# Altium integrated library TI Power Management Power Modules.IntLib: 831 symbols (part 25 of 44)
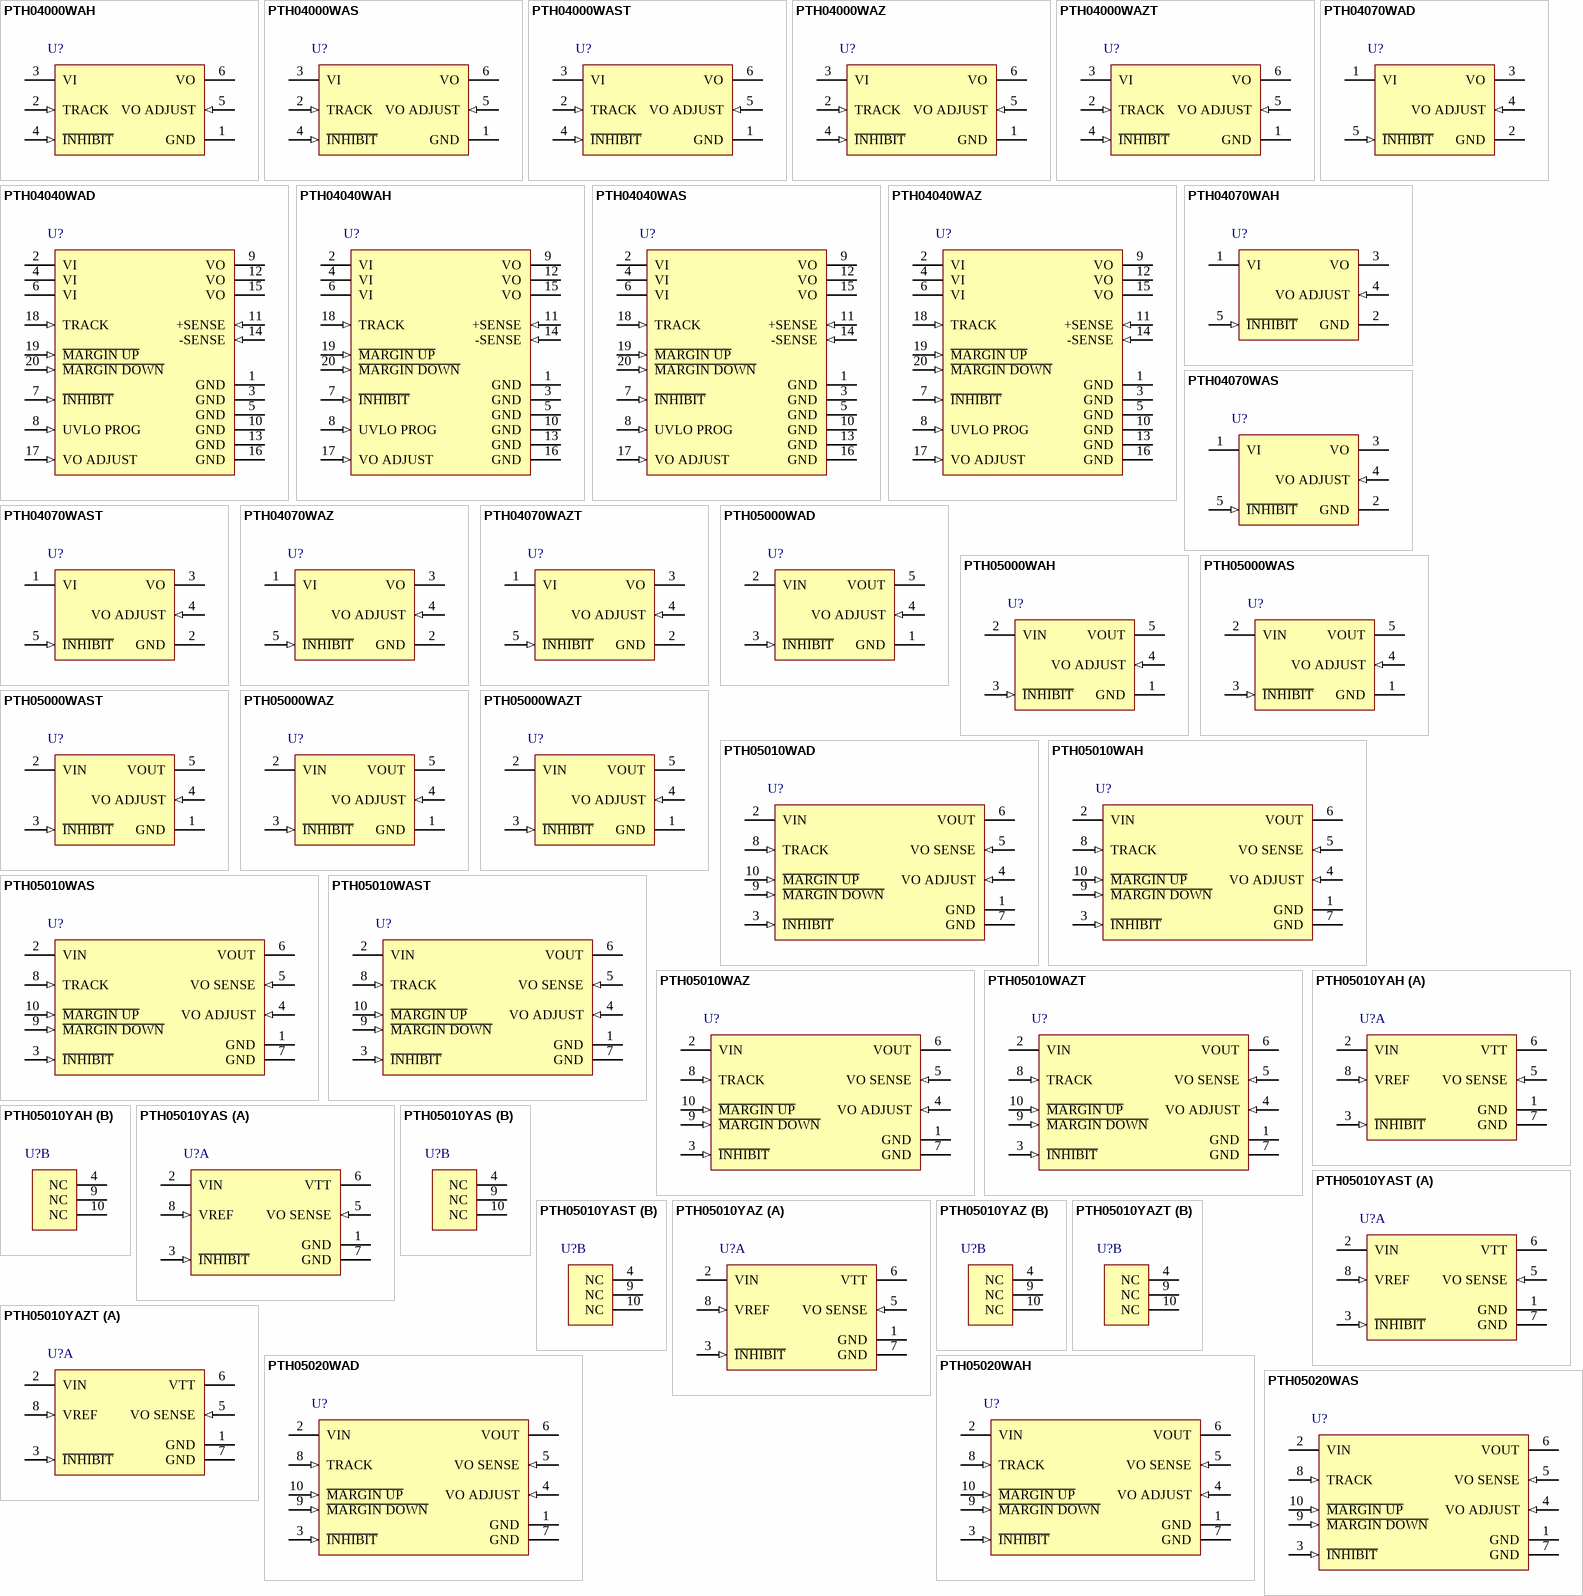
[diagram p47: symbols PTH04000WAH to PTH05020WAS]

## PTH04040WAS
designator U?
60 A, 3.3 / 5 V Input Non-Isolated Wide-Output Adjust Power Module, -40 to 85 degC, 20-pin Module (EVG20); Manufacturer: Texas Instruments; PartNumber: PTH04040WAS; Eco-Plan: TBD; Iout(Max)(A): 60; Regulated Outputs(#): 1; SubFamily: Non-Isolated POL; Vin(Max)(V): 5.5; Vin(Min)(V): 2.95; VO Adjustable: TRUE; Vout(Max)(V): 2.5; Vout(Min)(V): 0.8; DatasheetVersion: SLTS238C; PackageVersion: 4205912/A; PackageReference: EVG20; PackageDescription: 20-Pin Plastic Special Shape, Body 26.54 x 51.94 mm; Supplier 1: Digi-Key; Supplier Part Number 1: 296-20395-ND; Supplier 2: Newark; Supplier Part Number 2: 28K3817; Supplier 3: Mouser; Supplier Part Number 3: 595-PTH04040WAS; Mounting Technology: Surface Mount; ComponentLink1Description: Manufacturer URL; ComponentLink1URL: http://www.ti.com/; ComponentLink2Description: Datasheet; ComponentLink2URL: http://www.ti.com/general/docs/lit/getliterature.tsp?genericPartNumber=PTH04040W&fileType=pdf; ComponentLink3Description: Package Specification; ComponentLink3URL: http://www.ti.com/lit/ml/mpds167/mpds167.pdf; ComponentLink4Description: URL Link1; ComponentLink4URL: Samples URL:http://www.ti.com/product/pth04040w#samples
footprint TI-EVG20_V (Module, 20-Leads, Body 51.94x26.54mm)
pins: 1 GND (power) "This is the common ground connection for the VI and VO power connections. It is also the 0 Vdc reference for the control inputs.", 2 VI (power) "The positive input voltage power node to the module, which is referenced to common GND.", 3 GND (power) "This is the common ground connection for the VI and VO power connections. It is also the 0 Vdc reference for the control inputs.", 4 VI (power) "The positive input voltage power node to the module, which is referenced to common GND.", 5 GND (power) "This is the common ground connection for the VI and VO power connections. It is also the 0 Vdc reference for the control inputs.", 6 VI (power) "The positive input voltage power node to the module, which is referenced to common GND.", 7 ~{INHIBIT} (in) "The Inhibit pin is an open-collector/drain negative logic input that is referenced to GND. Applying a low level ground signal to this input disables the module’s output and turns off the output voltage. When the Inhibit (See Datasheet)", 8 UVLO PROG (in) "Connecting a resistor from this pin to signal ground allows the on threshold of the input undervoltage lockout (UVLO) to be adjusted higher than the default value. The hysterisis can also be independently reduced by (See Datasheet)", 9 VO (power) "The regulated positive power output with respect to the GND node.", 10 GND (power) "This is the common ground connection for the VI and VO power connections. It is also the 0 Vdc reference for the control inputs.", 11 +SENSE (in) "The sense inputs allow the regulation circuit to compensate for voltage drop between the module and the load. For optimal voltage accuracy, +Sense should be connected to VO. If it is left open, a low-value internal resistor (See Datasheet)", 12 VO (power) "The regulated positive power output with respect to the GND node.", 13 GND (power) "This is the common ground connection for the VI and VO power connections. It is also the 0 Vdc reference for the control inputs.", 14 -SENSE (in) "For optimal voltage accuracy, -Sense should be connected to the ground return at the load. If it is left open, a low-value internal resistor ensures that the output remains in regulation.", 15 VO (power) "The regulated positive power output with respect to the GND node.", 16 GND (power) "This is the common ground connection for the VI and VO power connections. It is also the 0 Vdc reference for the control inputs.", 17 VO ADJUST (in) "A 1%, 0.05-W resistor must be connected between this pin and GND to set the output voltage higher than the minimum value. The set-point range for the output voltage is from 0.8 V to 2.5 V. The resistor required for a given (See Datasheet)", 18 TRACK (in) "This is an analog control input that allows the output voltage to follow another voltage during power up and power down sequences. The pin is active from 0 V, up to the nominal set-point voltage. Within this range, the (See Datasheet)", 19 ~{MARGIN UP} (in) "When this input is asserted to GND, the output voltage is increased by 5%. The input requires an open collector (open-drain) interface. It is not TTL compatible. The percent change can be reduced with a series resistor. For (See Datasheet)", 20 ~{MARGIN DOWN} (in) "When this input is asserted to GND, the output voltage is decreased by 5% from the nominal. The input requires an open-collector (open-drain) interface. It is not TTL compatible. A lower percent change can be accommodated (See Datasheet)"

## PTH04040WAZ
designator U?
60 A, 3.3 / 5 V Input Non-Isolated Wide-Output Adjust Power Module, -40 to 85 degC, 20-pin Module (EVG20), Pb-Free (RoHS); Manufacturer: Texas Instruments; PartNumber: PTH04040WAZ; Iout(Max)(A): 60; Regulated Outputs(#): 1; SubFamily: Non-Isolated POL; Vin(Max)(V): 5.5; Vin(Min)(V): 2.95; VO Adjustable: TRUE; Vout(Max)(V): 2.5; Vout(Min)(V): 0.8; DatasheetVersion: SLTS238C; PackageVersion: 4205912/A; PackageReference: EVG20; PackageDescription: 20-Pin Plastic Special Shape, Body 26.54 x 51.94 mm; Supplier 1: Digi-Key; Supplier Part Number 1: 296-20396-ND; Supplier 2: Newark; Supplier Part Number 2: 37K0711; Supplier 3: Mouser; Supplier Part Number 3: 595-PTH04040WAZ; Eco-Plan: Pb-Free (RoHS); Mounting Technology: Surface Mount; ComponentLink1Description: Manufacturer URL; ComponentLink1URL: http://www.ti.com/; ComponentLink2Description: Datasheet; ComponentLink2URL: http://www.ti.com/general/docs/lit/getliterature.tsp?genericPartNumber=PTH04040W&fileType=pdf; ComponentLink3Description: Package Specification; ComponentLink3URL: http://www.ti.com/lit/ml/mpds167/mpds167.pdf; ComponentLink4Description: URL Link1; ComponentLink4URL: Samples URL:http://www.ti.com/product/tps55010#samples
footprint TI-EVG20_V (Module, 20-Leads, Body 51.94x26.54mm)
pins: 1 GND (power) "This is the common ground connection for the VI and VO power connections. It is also the 0 Vdc reference for the control inputs.", 2 VI (power) "The positive input voltage power node to the module, which is referenced to common GND.", 3 GND (power) "This is the common ground connection for the VI and VO power connections. It is also the 0 Vdc reference for the control inputs.", 4 VI (power) "The positive input voltage power node to the module, which is referenced to common GND.", 5 GND (power) "This is the common ground connection for the VI and VO power connections. It is also the 0 Vdc reference for the control inputs.", 6 VI (power) "The positive input voltage power node to the module, which is referenced to common GND.", 7 ~{INHIBIT} (in) "The Inhibit pin is an open-collector/drain negative logic input that is referenced to GND. Applying a low level ground signal to this input disables the module’s output and turns off the output voltage. When the Inhibit (See Datasheet)", 8 UVLO PROG (in) "Connecting a resistor from this pin to signal ground allows the on threshold of the input undervoltage lockout (UVLO) to be adjusted higher than the default value. The hysterisis can also be independently reduced by (See Datasheet)", 9 VO (power) "The regulated positive power output with respect to the GND node.", 10 GND (power) "This is the common ground connection for the VI and VO power connections. It is also the 0 Vdc reference for the control inputs.", 11 +SENSE (in) "The sense inputs allow the regulation circuit to compensate for voltage drop between the module and the load. For optimal voltage accuracy, +Sense should be connected to VO. If it is left open, a low-value internal resistor (See Datasheet)", 12 VO (power) "The regulated positive power output with respect to the GND node.", 13 GND (power) "This is the common ground connection for the VI and VO power connections. It is also the 0 Vdc reference for the control inputs.", 14 -SENSE (in) "For optimal voltage accuracy, -Sense should be connected to the ground return at the load. If it is left open, a low-value internal resistor ensures that the output remains in regulation.", 15 VO (power) "The regulated positive power output with respect to the GND node.", 16 GND (power) "This is the common ground connection for the VI and VO power connections. It is also the 0 Vdc reference for the control inputs.", 17 VO ADJUST (in) "A 1%, 0.05-W resistor must be connected between this pin and GND to set the output voltage higher than the minimum value. The set-point range for the output voltage is from 0.8 V to 2.5 V. The resistor required for a given (See Datasheet)", 18 TRACK (in) "This is an analog control input that allows the output voltage to follow another voltage during power up and power down sequences. The pin is active from 0 V, up to the nominal set-point voltage. Within this range, the (See Datasheet)", 19 ~{MARGIN UP} (in) "When this input is asserted to GND, the output voltage is increased by 5%. The input requires an open collector (open-drain) interface. It is not TTL compatible. The percent change can be reduced with a series resistor. For (See Datasheet)", 20 ~{MARGIN DOWN} (in) "When this input is asserted to GND, the output voltage is decreased by 5% from the nominal. The input requires an open-collector (open-drain) interface. It is not TTL compatible. A lower percent change can be accommodated (See Datasheet)"

## PTH04070WAD
designator U?
3 A, 3.3 / 5 V Input Adjustable Switching Regulator, -40 to 85 degC, 5-pin Module (EVD5), Pb-Free (RoHS); Manufacturer: Texas Instruments; PartNumber: PTH04070WAD; Iout(Max)(A): 3; Regulated Outputs(#): 1; SubFamily: Non-Isolated POL; Vin(Max)(V): 5.5; VO Adjustable: TRUE; Vout(Max)(V): 3.6; Vout(Min)(V): 0.9; DatasheetVersion: SLTS227B; PackageVersion: 4206288/A; PackageReference: EVD5; PackageDescription: 5-Pin Plastic Special Shape, Body 10.16 x 12.57 mm; Supplier 1: Digi-Key; Supplier Part Number 1: 296-26309-ND; Supplier 2: Newark; Supplier Part Number 2: 71K9391; Supplier 3: Mouser; Supplier Part Number 3: 595-PTH04070WAD; Eco-Plan: Pb-Free (RoHS); Vin(Min)(V): 3; Mounting Technology: Through Hole; ComponentLink1Description: Manufacturer URL; ComponentLink1URL: http://www.ti.com/; ComponentLink2Description: Datasheet; ComponentLink2URL: http://www.ti.com/general/docs/lit/getliterature.tsp?genericPartNumber=PTH04070W&fileType=pdf; ComponentLink3Description: Package Specification; ComponentLink3URL: http://www.ti.com/litv/pdf/mpds181; ComponentLink4Description: URL Link1; ComponentLink4URL: Samples URL:http://www.ti.com/product/pth04070w#samples
footprint TI-EVD5_V (Module, 5-Leads, Body 12.57x10.16mm)
pins: 1 VI (power) "The positive input voltage power node to the module, which is referenced to common GND.", 2 GND (power) "This is the common ground connection for the VI and VO power connections. It is also the 0-VDC reference for the control inputs.", 3 VO (power) "The regulated positive power output with respect to the GND node.", 4 VO ADJUST (in) "A 1% resistor must be connected between this pin and GND (pin 1) to set the output voltage of the module higher than 0.9 V. If left open-circuit, the output voltage defaults to this value. The temperature stability of the (See Datasheet)", 5 ~{INHIBIT} (in) "The Inhibit pin is an open-collector/drain-negative logic input that is referenced to GND. Applying a low-level ground signal to this input disables the module's output. When the Inhibit control is active, the input current (See Datasheet)"

## PTH04070WAH
designator U?
3 A, 3.3 / 5 V Input Adjustable Switching Regulator, -40 to 85 degC, 5-pin Module (EVD5), Pb-Free (RoHS); Manufacturer: Texas Instruments; PartNumber: PTH04070WAH; Iout(Max)(A): 3; Regulated Outputs(#): 1; SubFamily: Non-Isolated POL; Vin(Max)(V): 5.5; VO Adjustable: TRUE; Vout(Max)(V): 3.6; Vout(Min)(V): 0.9; DatasheetVersion: SLTS227B; PackageVersion: 4206288/A; PackageReference: EVD5; PackageDescription: 5-Pin Plastic Special Shape, Body 10.16 x 12.57 mm; Supplier 1: Digi-Key; Supplier Part Number 1: 296-20397-ND; Supplier 2: Farnell; Supplier Part Number 2: 1470479; Supplier 3: Newark; Supplier Part Number 3: 44J0217; Supplier 4: Mouser; Supplier Part Number 4: 595-PTH04070WAH; Eco-Plan: Pb-Free (RoHS); Vin(Min)(V): 3; Mounting Technology: Through Hole; ComponentLink1Description: Manufacturer URL; ComponentLink1URL: http://www.ti.com/; ComponentLink2Description: Datasheet; ComponentLink2URL: http://www.ti.com/general/docs/lit/getliterature.tsp?genericPartNumber=PTH04070W&fileType=pdf; ComponentLink3Description: Package Specification; ComponentLink3URL: http://www.ti.com/litv/pdf/mpds181; ComponentLink4Description: URL Link1; ComponentLink4URL: Samples URL:http://www.ti.com/product/pth04070w#samples
footprint TI-EVD5_V (Module, 5-Leads, Body 12.57x10.16mm)
pins: 1 VI (power) "The positive input voltage power node to the module, which is referenced to common GND.", 2 GND (power) "This is the common ground connection for the VI and VO power connections. It is also the 0-VDC reference for the control inputs.", 3 VO (power) "The regulated positive power output with respect to the GND node.", 4 VO ADJUST (in) "A 1% resistor must be connected between this pin and GND (pin 1) to set the output voltage of the module higher than 0.9 V. If left open-circuit, the output voltage defaults to this value. The temperature stability of the (See Datasheet)", 5 ~{INHIBIT} (in) "The Inhibit pin is an open-collector/drain-negative logic input that is referenced to GND. Applying a low-level ground signal to this input disables the module's output. When the Inhibit control is active, the input current (See Datasheet)"

## PTH04070WAS
designator U?
3 A, 3.3 / 5 V Input Adjustable Switching Regulator, -40 to 85 degC, 5-pin Module (EVE5); Manufacturer: Texas Instruments; PartNumber: PTH04070WAS; Eco-Plan: TBD; Iout(Max)(A): 3; Regulated Outputs(#): 1; SubFamily: Non-Isolated POL; Vin(Max)(V): 5.5; VO Adjustable: TRUE; Vout(Max)(V): 3.6; Vout(Min)(V): 0.9; DatasheetVersion: SLTS227B; PackageVersion: 4206289/A; PackageReference: EVE5; PackageDescription: 5-Pin Plastic Special Shape, Body 10.16 x 12.57 mm; Supplier 1: Digi-Key; Supplier Part Number 1: 296-20398-ND; Supplier 2: Farnell; Supplier Part Number 2: 2144312; Supplier 3: Newark; Supplier Part Number 3: 44J0218; Supplier 4: Mouser; Supplier Part Number 4: 595-PTH04070WAS; Vin(Min)(V): 3; Mounting Technology: Surface Mount; ComponentLink1Description: Manufacturer URL; ComponentLink1URL: http://www.ti.com/; ComponentLink2Description: Datasheet; ComponentLink2URL: http://www.ti.com/general/docs/lit/getliterature.tsp?genericPartNumber=PTH04070W&fileType=pdf; ComponentLink3Description: Package Specification; ComponentLink3URL: http://www.ti.com/lit/ml/mpds182/mpds182.pdf; ComponentLink4Description: URL Link1; ComponentLink4URL: Samples URL:http://www.ti.com/product/pth04070w#samples
footprint TI-EVE5_V (5-Leads Double Sided Module, Body 12.57x10.16 mm)
pins: 1 VI (power) "The positive input voltage power node to the module, which is referenced to common GND.", 2 GND (power) "This is the common ground connection for the VI and VO power connections. It is also the 0-VDC reference for the control inputs.", 3 VO (power) "The regulated positive power output with respect to the GND node.", 4 VO ADJUST (in) "A 1% resistor must be connected between this pin and GND (pin 1) to set the output voltage of the module higher than 0.9 V. If left open-circuit, the output voltage defaults to this value. The temperature stability of the (See Datasheet)", 5 ~{INHIBIT} (in) "The Inhibit pin is an open-collector/drain-negative logic input that is referenced to GND. Applying a low-level ground signal to this input disables the module's output. When the Inhibit control is active, the input current (See Datasheet)"

## PTH04070WAST
designator U?
3 A, 3.3 / 5 V Input Adjustable Switching Regulator, -40 to 85 degC, 5-pin Module (EVE5); Manufacturer: Texas Instruments; PartNumber: PTH04070WAST; Eco-Plan: TBD; Iout(Max)(A): 3; Regulated Outputs(#): 1; SubFamily: Non-Isolated POL; Vin(Max)(V): 5.5; VO Adjustable: TRUE; Vout(Max)(V): 3.6; Vout(Min)(V): 0.9; DatasheetVersion: SLTS227B; PackageVersion: 4206289/A; PackageReference: EVE5; PackageDescription: 5-Pin Plastic Special Shape, Body 10.16 x 12.57 mm; Supplier 1: Digi-Key; Supplier Part Number 1: PTH04070WAST-ND; Supplier 2: Newark; Supplier Part Number 2: 44J0219; Supplier 3: Mouser; Supplier Part Number 3: 595-PTH04070WAST; Vin(Min)(V): 3; Mounting Technology: Surface Mount; ComponentLink1Description: Manufacturer URL; ComponentLink1URL: http://www.ti.com/; ComponentLink2Description: Datasheet; ComponentLink2URL: http://www.ti.com/general/docs/lit/getliterature.tsp?genericPartNumber=PTH04070W&fileType=pdf; ComponentLink3Description: Package Specification; ComponentLink3URL: http://www.ti.com/lit/ml/mpds182/mpds182.pdf; ComponentLink4Description: URL Link1; ComponentLink4URL: Samples URL:http://www.ti.com/product/pth04070w#samples
footprint TI-EVE5_V (5-Leads Double Sided Module, Body 12.57x10.16 mm)
pins: 1 VI (power) "The positive input voltage power node to the module, which is referenced to common GND.", 2 GND (power) "This is the common ground connection for the VI and VO power connections. It is also the 0-VDC reference for the control inputs.", 3 VO (power) "The regulated positive power output with respect to the GND node.", 4 VO ADJUST (in) "A 1% resistor must be connected between this pin and GND (pin 1) to set the output voltage of the module higher than 0.9 V. If left open-circuit, the output voltage defaults to this value. The temperature stability of the (See Datasheet)", 5 ~{INHIBIT} (in) "The Inhibit pin is an open-collector/drain-negative logic input that is referenced to GND. Applying a low-level ground signal to this input disables the module's output. When the Inhibit control is active, the input current (See Datasheet)"

## PTH04070WAZ
designator U?
3 A, 3.3 / 5 V Input Adjustable Switching Regulator, -40 to 85 degC, 5-pin Module (EVE5), Pb-Free (RoHS); Manufacturer: Texas Instruments; PartNumber: PTH04070WAZ; Iout(Max)(A): 3; Regulated Outputs(#): 1; SubFamily: Non-Isolated POL; Vin(Max)(V): 5.5; VO Adjustable: TRUE; Vout(Max)(V): 3.6; Vout(Min)(V): 0.9; DatasheetVersion: SLTS227B; PackageVersion: 4206289/A; PackageReference: EVE5; PackageDescription: 5-Pin Plastic Special Shape, Body 10.16 x 12.57 mm; Supplier 1: Digi-Key; Supplier Part Number 1: 296-20399-ND; Supplier 2: Newark; Supplier Part Number 2: 37K0712; Supplier 3: Mouser; Supplier Part Number 3: 595-PTH04070WAZ; Eco-Plan: Pb-Free (RoHS); Vin(Min)(V): 3; Mounting Technology: Surface Mount; ComponentLink1Description: Manufacturer URL; ComponentLink1URL: http://www.ti.com/; ComponentLink2Description: Datasheet; ComponentLink2URL: http://www.ti.com/general/docs/lit/getliterature.tsp?genericPartNumber=PTH04070W&fileType=pdf; ComponentLink3Description: Package Specification; ComponentLink3URL: http://www.ti.com/lit/ml/mpds182/mpds182.pdf; ComponentLink4Description: URL Link1; ComponentLink4URL: Samples URL:http://www.ti.com/product/pth04070w#samples
footprint TI-EVE5_V (5-Leads Double Sided Module, Body 12.57x10.16 mm)
pins: 1 VI (power) "The positive input voltage power node to the module, which is referenced to common GND.", 2 GND (power) "This is the common ground connection for the VI and VO power connections. It is also the 0-VDC reference for the control inputs.", 3 VO (power) "The regulated positive power output with respect to the GND node.", 4 VO ADJUST (in) "A 1% resistor must be connected between this pin and GND (pin 1) to set the output voltage of the module higher than 0.9 V. If left open-circuit, the output voltage defaults to this value. The temperature stability of the (See Datasheet)", 5 ~{INHIBIT} (in) "The Inhibit pin is an open-collector/drain-negative logic input that is referenced to GND. Applying a low-level ground signal to this input disables the module's output. When the Inhibit control is active, the input current (See Datasheet)"

## PTH04070WAZT
designator U?
3 A, 3.3 / 5 V Input Adjustable Switching Regulator, -40 to 85 degC, 5-pin Module (EVE5), Pb-Free (RoHS); Manufacturer: Texas Instruments; PartNumber: PTH04070WAZT; Iout(Max)(A): 3; Regulated Outputs(#): 1; SubFamily: Non-Isolated POL; Vin(Max)(V): 5.5; VO Adjustable: TRUE; Vout(Max)(V): 3.6; Vout(Min)(V): 0.9; DatasheetVersion: SLTS227B; PackageVersion: 4206289/A; PackageReference: EVE5; PackageDescription: 5-Pin Plastic Special Shape, Body 10.16 x 12.57 mm; Supplier 1: Digi-Key; Supplier Part Number 1: PTH04070WAZT-ND; Supplier 2: Farnell; Supplier Part Number 2: 1180201RL; Supplier 3: Farnell; Supplier Part Number 3: 1180201; Supplier 4: Newark; Supplier Part Number 4: 21M9035; Supplier 5: Newark; Supplier Part Number 5: 37K0713; Supplier 6: Mouser; Supplier Part Number 6: 595-PTH04070WAZT; Eco-Plan: Pb-Free (RoHS); Vin(Min)(V): 3; Mounting Technology: Surface Mount; ComponentLink1Description: Manufacturer URL; ComponentLink1URL: http://www.ti.com/; ComponentLink2Description: Datasheet; ComponentLink2URL: http://www.ti.com/general/docs/lit/getliterature.tsp?genericPartNumber=PTH04070W&fileType=pdf; ComponentLink3Description: Package Specification; ComponentLink3URL: http://www.ti.com/lit/ml/mpds182/mpds182.pdf; ComponentLink4Description: URL Link1; ComponentLink4URL: Samples URL:http://www.ti.com/product/pth04070w#samples
footprint TI-EVE5_V (5-Leads Double Sided Module, Body 12.57x10.16 mm)
pins: 1 VI (power) "The positive input voltage power node to the module, which is referenced to common GND.", 2 GND (power) "This is the common ground connection for the VI and VO power connections. It is also the 0-VDC reference for the control inputs.", 3 VO (power) "The regulated positive power output with respect to the GND node.", 4 VO ADJUST (in) "A 1% resistor must be connected between this pin and GND (pin 1) to set the output voltage of the module higher than 0.9 V. If left open-circuit, the output voltage defaults to this value. The temperature stability of the (See Datasheet)", 5 ~{INHIBIT} (in) "The Inhibit pin is an open-collector/drain-negative logic input that is referenced to GND. Applying a low-level ground signal to this input disables the module's output. When the Inhibit control is active, the input current (See Datasheet)"

## PTH05000WAD
designator U?
6 A, 5 V Input Wide-Output Adjust Plug-in Power Module, -40 to 85 degC, 5-pin Module (EUS5), Pb-Free (RoHS); Manufacturer: Texas Instruments; PartNumber: PTH05000WAD; Iout(Max)(A): 6; Regulated Outputs(#): 1; SubFamily: Non-Isolated POL; Vin(Max)(V): 5.5; Vin(Min)(V): 4.5; VO Adjustable: TRUE; Vout(Max)(V): 3.6; Vout(Min)(V): 0.9; DatasheetVersion: SLTS201C; PackageVersion: 4204990-2/C; PackageReference: EUS5; PackageDescription: 5-Pin Plastic Special Shape, Body 12.57 x 18.92 mm; Supplier 1: Digi-Key; Supplier Part Number 1: 296-32714-ND; Supplier 2: Farnell; Supplier Part Number 2: 1103284; Supplier 3: Newark; Supplier Part Number 3: 97K7858; Supplier 4: Newark; Supplier Part Number 4: 58K6004; Supplier 5: Mouser; Supplier Part Number 5: 595-PTH05000WAD; Eco-Plan: Pb-Free (RoHS); Mounting Technology: Through Hole; ComponentLink1Description: Manufacturer URL; ComponentLink1URL: http://www.ti.com/; ComponentLink2Description: Datasheet; ComponentLink2URL: http://www.ti.com/general/docs/lit/getliterature.tsp?genericPartNumber=PTH05000W&fileType=pdf; ComponentLink3Description: Package Specification; ComponentLink3URL: http://www.ti.com/litv/pdf/mpds139b; ComponentLink4Description: URL Link1; ComponentLink4URL: Samples URL:http://www.ti.com/product/pth05000w#samples
footprint TI-EUS5_V (5-Leads, Plastic Special Shape, Body 18.92x12.57mm)
pins: 1 GND (power) "This is the common ground connection for the‘Vin’ and ‘Vout’ power connections. It is also the 0 VDC reference for the ‘Inhibit’ and ‘Vo Adjust’ control input.", 2 VIN (power) "The positive input voltage power node to the module, which is referenced to common GND.", 3 ~{INHIBIT} (in) "The Inhibit pin is an open-collector/drain negative logic input that is referenced to GND. Applying a lowlevel ground signal to this input disables the module’s output and turns off the output voltage. When the Inhibit (See Datasheet)", 4 VO ADJUST (in) "A 0.1 W 1 % resistor must be directly connected between this pin and the GND pin to set the output voltage to a value higher than 0.9 V. The temperature stability of the resistor should be 100 ppm/degreesC (or better). The (See Datasheet)", 5 VOUT (power) "The regulated positive power output with respect to the GND node."

## PTH05000WAH
designator U?
6 A, 5 V Input Wide-Output Adjust Plug-in Power Module, -40 to 85 degC, 5-pin Module (EUS5), Pb-Free (RoHS); Manufacturer: Texas Instruments; PartNumber: PTH05000WAH; Iout(Max)(A): 6; Regulated Outputs(#): 1; SubFamily: Non-Isolated POL; Vin(Max)(V): 5.5; Vin(Min)(V): 4.5; VO Adjustable: TRUE; Vout(Max)(V): 3.6; Vout(Min)(V): 0.9; DatasheetVersion: SLTS201C; PackageVersion: 4204990-2/C; PackageReference: EUS5; PackageDescription: 5-Pin Plastic Special Shape, Body 12.57 x 18.92 mm; Supplier 1: Digi-Key; Supplier Part Number 1: 296-19718-ND; Supplier 2: Farnell; Supplier Part Number 2: 1212253; Supplier 3: Newark; Supplier Part Number 3: 80K6126; Supplier 4: Mouser; Supplier Part Number 4: 595-PTH05000WAH; Eco-Plan: Pb-Free (RoHS); Mounting Technology: Through Hole; ComponentLink1Description: Manufacturer URL; ComponentLink1URL: http://www.ti.com/; ComponentLink2Description: Datasheet; ComponentLink2URL: http://www.ti.com/general/docs/lit/getliterature.tsp?genericPartNumber=PTH05000W&fileType=pdf; ComponentLink3Description: Package Specification; ComponentLink3URL: http://www.ti.com/litv/pdf/mpds139b; ComponentLink4Description: URL Link1; ComponentLink4URL: Samples URL:http://www.ti.com/product/pth05000w#samples
footprint TI-EUS5_V (5-Leads, Plastic Special Shape, Body 18.92x12.57mm)
pins: 1 GND (power) "This is the common ground connection for the‘Vin’ and ‘Vout’ power connections. It is also the 0 VDC reference for the ‘Inhibit’ and ‘Vo Adjust’ control input.", 2 VIN (power) "The positive input voltage power node to the module, which is referenced to common GND.", 3 ~{INHIBIT} (in) "The Inhibit pin is an open-collector/drain negative logic input that is referenced to GND. Applying a lowlevel ground signal to this input disables the module’s output and turns off the output voltage. When the Inhibit (See Datasheet)", 4 VO ADJUST (in) "A 0.1 W 1 % resistor must be directly connected between this pin and the GND pin to set the output voltage to a value higher than 0.9 V. The temperature stability of the resistor should be 100 ppm/degreesC (or better). The (See Datasheet)", 5 VOUT (power) "The regulated positive power output with respect to the GND node."

## PTH05000WAS
designator U?
6 A, 5 V Input Wide-Output Adjust Plug-in Power Module, -40 to 85 degC, 5-pin Module (EUT5); Manufacturer: Texas Instruments; PartNumber: PTH05000WAS; Eco-Plan: TBD; Iout(Max)(A): 6; Regulated Outputs(#): 1; SubFamily: Non-Isolated POL; Vin(Max)(V): 5.5; Vin(Min)(V): 4.5; VO Adjustable: TRUE; Vout(Max)(V): 3.6; Vout(Min)(V): 0.9; DatasheetVersion: SLTS201C; PackageVersion: 4204991-2/C; PackageReference: EUT5; PackageDescription: 5-Pin Plastic Special Shape, Body 12.57 x 18.92 mm; Supplier 1: Digi-Key; Supplier Part Number 1: 296-20400-ND; Supplier 2: Newark; Supplier Part Number 2: 82H5356; Supplier 3: Mouser; Supplier Part Number 3: 595-PTH05000WAS; Mounting Technology: Surface Mount; ComponentLink1Description: Manufacturer URL; ComponentLink1URL: http://www.ti.com/; ComponentLink2Description: Datasheet; ComponentLink2URL: http://www.ti.com/general/docs/lit/getliterature.tsp?genericPartNumber=PTH05000W&fileType=pdf; ComponentLink3Description: Package Specification; ComponentLink3URL: http://www.ti.com/lit/ml/mpds140b/mpds140b.pdf; ComponentLink4Description: URL Link1; ComponentLink4URL: Samples URL:http://www.ti.com/product/pth05000w#samples
footprint TI-EUT5_V (Module, 5-Leads, Body 18.92x12.57 mm)
pins: 1 GND (power) "This is the common ground connection for the‘Vin’ and ‘Vout’ power connections. It is also the 0 VDC reference for the ‘Inhibit’ and ‘Vo Adjust’ control input.", 2 VIN (power) "The positive input voltage power node to the module, which is referenced to common GND.", 3 ~{INHIBIT} (in) "The Inhibit pin is an open-collector/drain negative logic input that is referenced to GND. Applying a lowlevel ground signal to this input disables the module’s output and turns off the output voltage. When the Inhibit (See Datasheet)", 4 VO ADJUST (in) "A 0.1 W 1 % resistor must be directly connected between this pin and the GND pin to set the output voltage to a value higher than 0.9 V. The temperature stability of the resistor should be 100 ppm/degreesC (or better). The (See Datasheet)", 5 VOUT (power) "The regulated positive power output with respect to the GND node."

## PTH05000WAST
designator U?
6 A, 5 V Input Wide-Output Adjust Plug-in Power Module, -40 to 85 degC, 5-pin Module (EUT5); Manufacturer: Texas Instruments; PartNumber: PTH05000WAST; Eco-Plan: TBD; Iout(Max)(A): 6; Regulated Outputs(#): 1; SubFamily: Non-Isolated POL; Vin(Max)(V): 5.5; Vin(Min)(V): 4.5; VO Adjustable: TRUE; Vout(Max)(V): 3.6; Vout(Min)(V): 0.9; DatasheetVersion: SLTS201C; PackageVersion: 4204991-2/C; PackageReference: EUT5; PackageDescription: 5-Pin Plastic Special Shape, Body 12.57 x 18.92 mm; Supplier 1: Digi-Key; Supplier Part Number 1: PTH05000WAST-ND; Supplier 2: Newark; Supplier Part Number 2: 21J8884; Supplier 3: Mouser; Supplier Part Number 3: 595-PTH05000WAST; Mounting Technology: Surface Mount; ComponentLink1Description: Manufacturer URL; ComponentLink1URL: http://www.ti.com/; ComponentLink2Description: Datasheet; ComponentLink2URL: http://www.ti.com/general/docs/lit/getliterature.tsp?genericPartNumber=PTH05000W&fileType=pdf; ComponentLink3Description: Package Specification; ComponentLink3URL: http://www.ti.com/lit/ml/mpds140b/mpds140b.pdf; ComponentLink4Description: URL Link1; ComponentLink4URL: Samples URL:http://www.ti.com/product/pth05000w#samples
footprint TI-EUT5_V (Module, 5-Leads, Body 18.92x12.57 mm)
pins: 1 GND (power) "This is the common ground connection for the‘Vin’ and ‘Vout’ power connections. It is also the 0 VDC reference for the ‘Inhibit’ and ‘Vo Adjust’ control input.", 2 VIN (power) "The positive input voltage power node to the module, which is referenced to common GND.", 3 ~{INHIBIT} (in) "The Inhibit pin is an open-collector/drain negative logic input that is referenced to GND. Applying a lowlevel ground signal to this input disables the module’s output and turns off the output voltage. When the Inhibit (See Datasheet)", 4 VO ADJUST (in) "A 0.1 W 1 % resistor must be directly connected between this pin and the GND pin to set the output voltage to a value higher than 0.9 V. The temperature stability of the resistor should be 100 ppm/degreesC (or better). The (See Datasheet)", 5 VOUT (power) "The regulated positive power output with respect to the GND node."

## PTH05000WAZ
designator U?
6 A, 5 V Input Wide-Output Adjust Plug-in Power Module, -40 to 85 degC, 5-pin Module (EUT5), Pb-Free (RoHS); Manufacturer: Texas Instruments; PartNumber: PTH05000WAZ; Iout(Max)(A): 6; Regulated Outputs(#): 1; SubFamily: Non-Isolated POL; Vin(Max)(V): 5.5; Vin(Min)(V): 4.5; VO Adjustable: TRUE; Vout(Max)(V): 3.6; Vout(Min)(V): 0.9; DatasheetVersion: SLTS201C; PackageVersion: 4204991-2/C; PackageReference: EUT5; PackageDescription: 5-Pin Plastic Special Shape, Body 12.57 x 18.92 mm; Supplier 1: Digi-Key; Supplier Part Number 1: 296-20401-ND; Supplier 2: Farnell; Supplier Part Number 2: 1103285; Supplier 3: Newark; Supplier Part Number 3: 97K7859; Supplier 4: Newark; Supplier Part Number 4: 37K0714; Supplier 5: Mouser; Supplier Part Number 5: 595-PTH05000WAZ; Eco-Plan: Pb-Free (RoHS); Mounting Technology: Surface Mount; ComponentLink1Description: Manufacturer URL; ComponentLink1URL: http://www.ti.com/; ComponentLink2Description: Datasheet; ComponentLink2URL: http://www.ti.com/general/docs/lit/getliterature.tsp?genericPartNumber=PTH05000W&fileType=pdf; ComponentLink3Description: Package Specification; ComponentLink3URL: http://www.ti.com/lit/ml/mpds140b/mpds140b.pdf; ComponentLink4Description: URL Link1; ComponentLink4URL: Samples URL:http://www.ti.com/product/pth05000w#samples
footprint TI-EUT5_V (Module, 5-Leads, Body 18.92x12.57 mm)
pins: 1 GND (power) "This is the common ground connection for the‘Vin’ and ‘Vout’ power connections. It is also the 0 VDC reference for the ‘Inhibit’ and ‘Vo Adjust’ control input.", 2 VIN (power) "The positive input voltage power node to the module, which is referenced to common GND.", 3 ~{INHIBIT} (in) "The Inhibit pin is an open-collector/drain negative logic input that is referenced to GND. Applying a lowlevel ground signal to this input disables the module’s output and turns off the output voltage. When the Inhibit (See Datasheet)", 4 VO ADJUST (in) "A 0.1 W 1 % resistor must be directly connected between this pin and the GND pin to set the output voltage to a value higher than 0.9 V. The temperature stability of the resistor should be 100 ppm/degreesC (or better). The (See Datasheet)", 5 VOUT (power) "The regulated positive power output with respect to the GND node."

## PTH05000WAZT
designator U?
6 A, 5 V Input Wide-Output Adjust Plug-in Power Module, -40 to 85 degC, 5-pin Module (EUT5), Pb-Free (RoHS); Manufacturer: Texas Instruments; PartNumber: PTH05000WAZT; Iout(Max)(A): 6; Regulated Outputs(#): 1; SubFamily: 1 W & 2 W Miniature; Vin(Max)(V): 5.5; Vin(Min)(V): 4.5; VO Adjustable: TRUE; Vout(Max)(V): 3.6; Vout(Min)(V): 0.9; DatasheetVersion: SLTS201C; PackageVersion: 4204991-2/C; PackageReference: EUT5; PackageDescription: 5-Pin Plastic Special Shape, Body 12.57 x 18.92 mm; Supplier 1: Digi-Key; Supplier Part Number 1: PTH05000WAZT-ND; Supplier 2: Newark; Supplier Part Number 2: 37K0715; Supplier 3: Mouser; Supplier Part Number 3: 595-PTH05000WAZT; Eco-Plan: Pb-Free (RoHS); Mounting Technology: Surface Mount; ComponentLink1Description: Manufacturer URL; ComponentLink1URL: http://www.ti.com/; ComponentLink2Description: Datasheet; ComponentLink2URL: http://www.ti.com/general/docs/lit/getliterature.tsp?genericPartNumber=PTH05000W&fileType=pdf; ComponentLink3Description: Package Specification; ComponentLink3URL: http://www.ti.com/lit/ml/mpds140b/mpds140b.pdf; ComponentLink4Description: URL Link1; ComponentLink4URL: Samples URL:http://www.ti.com/product/tps55010#samples
footprint TI-EUT5_V (Module, 5-Leads, Body 18.92x12.57 mm)
pins: 1 GND (power) "This is the common ground connection for the‘Vin’ and ‘Vout’ power connections. It is also the 0 VDC reference for the ‘Inhibit’ and ‘Vo Adjust’ control input.", 2 VIN (power) "The positive input voltage power node to the module, which is referenced to common GND.", 3 ~{INHIBIT} (in) "The Inhibit pin is an open-collector/drain negative logic input that is referenced to GND. Applying a lowlevel ground signal to this input disables the module’s output and turns off the output voltage. When the Inhibit (See Datasheet)", 4 VO ADJUST (in) "A 0.1 W 1 % resistor must be directly connected between this pin and the GND pin to set the output voltage to a value higher than 0.9 V. The temperature stability of the resistor should be 100 ppm/degreesC (or better). The (See Datasheet)", 5 VOUT (power) "The regulated positive power output with respect to the GND node."

## PTH05010WAD
designator U?
15 A, 5 V Input Wide-Output Adjust Plug-in Power Module, -40 to 85 degC, 10-pin Module (EUH10), Pb-Free (RoHS); Manufacturer: Texas Instruments; PartNumber: PTH05010WAD; Iout(Max)(A): 15; Regulated Outputs(#): 1; SubFamily: Non-Isolated POL; Vin(Max)(V): 5.5; Vin(Min)(V): 4.5; VO Adjustable: TRUE; Vout(Max)(V): 3.6; Vout(Min)(V): 0.8; DatasheetVersion: SLTS204C; PackageVersion: 4204984-3/E; PackageReference: EUH10; PackageDescription: 10-Pin Plastic Special Shape, Body 15.75 x 34.8 mm; Supplier 1: Digi-Key; Supplier Part Number 1: PTH05010WADTI-ND; Supplier 2: Farnell; Supplier Part Number 2: 1103290; Supplier 3: Newark; Supplier Part Number 3: 97K7860; Supplier 4: Newark; Supplier Part Number 4: 66K4109; Supplier 5: Mouser; Supplier Part Number 5: 595-PTH05010WAD; Eco-Plan: Pb-Free (RoHS); Mounting Technology: Through Hole; ComponentLink1Description: Manufacturer URL; ComponentLink1URL: http://www.ti.com/; ComponentLink2Description: Datasheet; ComponentLink2URL: http://www.ti.com/general/docs/lit/getliterature.tsp?genericPartNumber=PTH05010W&fileType=pdf; ComponentLink3Description: Package Specification; ComponentLink3URL: http://www.ti.com/litv/pdf/mpds130d; ComponentLink4Description: URL Link1; ComponentLink4URL: Samples URL:http://www.ti.com/product/pth05010w#samples
footprint TI-EUH10_V (Module, 10-Leads, Body 34.8x15.75 mm)
pins: 1 GND (power) "This is the common ground connection for the Vin and Vout power connections. It is also the 0 VDC reference for the control inputs", 2 VIN (power) "The positive input voltage power node to the module, which is referenced to common GND.", 3 ~{INHIBIT} (in) "The Inhibit pin is an open-collector/drain negative logic input that is referenced to GND. Applying a lowlevel ground signal to this input disables the module’s output and turns off the output voltage. When the Inhibit (See Datasheet)", 4 VO ADJUST (in) "A 0.1 W 1 % resistor must be directly connected between this pin and pin 7 (GND) to set the output voltage to a value higher than 0.8 V. The temperature stability of the resistor should be 100 ppm/degreesC (or better). The (See Datasheet)", 5 VO SENSE (in) "The sense input allows the regulation circuit to compensate for voltage drop between the module and the load. For optimal voltage accuracy Vo Sense should be connected to Vout. It can also be left disconnected.", 6 VOUT (power) "The regulated positive power output with respect to the GND node.", 7 GND (power) "This is the common ground connection for the Vin and Vout power connections. It is also the 0 VDC reference for the control inputs.", 8 TRACK (in) "This is an analog control input that enables the output voltage to follow an external voltage. This pin becomes active typically 20 ms after the input voltage has been applied, and allows direct control of the output voltage (See Datasheet)", 9 ~{MARGIN DOWN} (in) "When this input is asserted to GND, the output voltage is decreased by 5% from the nominal. The input requires an open-collector (open-drain) interface. It is not TTL compatible. A lower percent change can be accomodated (See Datasheet)", 10 ~{MARGIN UP} (in) "When this input is asserted to GND, the output voltage is increased by 5%. The input requires an open-collector (open-drain) interface. It is not TTL compatible. The percent change can be reduced with a series resistor. For (See Datasheet)"

## PTH05010WAH
designator U?
15 A, 5 V Input Wide-Output Adjust Plug-in Power Module, -40 to 85 degC, 10-pin Module (EUH10), Pb-Free (RoHS); Manufacturer: Texas Instruments; PartNumber: PTH05010WAH; Iout(Max)(A): 15; Regulated Outputs(#): 1; SubFamily: Non-Isolated POL; Vin(Max)(V): 5.5; Vin(Min)(V): 4.5; VO Adjustable: TRUE; Vout(Max)(V): 3.6; Vout(Min)(V): 0.8; DatasheetVersion: SLTS204C; PackageVersion: 4204984-3/E; PackageReference: EUH10; PackageDescription: 10-Pin Plastic Special Shape, Body 15.75 x 34.8 mm; Supplier 1: Digi-Key; Supplier Part Number 1: 296-20402-ND; Supplier 2: Newark; Supplier Part Number 2: 73H4315; Supplier 3: Mouser; Supplier Part Number 3: 595-PTH05010WAH; Eco-Plan: Pb-Free (RoHS); Mounting Technology: Through Hole; ComponentLink1Description: Manufacturer URL; ComponentLink1URL: http://www.ti.com/; ComponentLink2Description: Datasheet; ComponentLink2URL: http://www.ti.com/general/docs/lit/getliterature.tsp?genericPartNumber=PTH05010W&fileType=pdf; ComponentLink3Description: Package Specification; ComponentLink3URL: http://www.ti.com/litv/pdf/mpds130d; ComponentLink4Description: URL Link1; ComponentLink4URL: Samples URL:http://www.ti.com/product/pth05010w#samples
footprint TI-EUH10_V (Module, 10-Leads, Body 34.8x15.75 mm)
pins: 1 GND (power) "This is the common ground connection for the Vin and Vout power connections. It is also the 0 VDC reference for the control inputs", 2 VIN (power) "The positive input voltage power node to the module, which is referenced to common GND.", 3 ~{INHIBIT} (in) "The Inhibit pin is an open-collector/drain negative logic input that is referenced to GND. Applying a lowlevel ground signal to this input disables the module’s output and turns off the output voltage. When the Inhibit (See Datasheet)", 4 VO ADJUST (in) "A 0.1 W 1 % resistor must be directly connected between this pin and pin 7 (GND) to set the output voltage to a value higher than 0.8 V. The temperature stability of the resistor should be 100 ppm/degreesC (or better). The (See Datasheet)", 5 VO SENSE (in) "The sense input allows the regulation circuit to compensate for voltage drop between the module and the load. For optimal voltage accuracy Vo Sense should be connected to Vout. It can also be left disconnected.", 6 VOUT (power) "The regulated positive power output with respect to the GND node.", 7 GND (power) "This is the common ground connection for the Vin and Vout power connections. It is also the 0 VDC reference for the control inputs.", 8 TRACK (in) "This is an analog control input that enables the output voltage to follow an external voltage. This pin becomes active typically 20 ms after the input voltage has been applied, and allows direct control of the output voltage (See Datasheet)", 9 ~{MARGIN DOWN} (in) "When this input is asserted to GND, the output voltage is decreased by 5% from the nominal. The input requires an open-collector (open-drain) interface. It is not TTL compatible. A lower percent change can be accomodated (See Datasheet)", 10 ~{MARGIN UP} (in) "When this input is asserted to GND, the output voltage is increased by 5%. The input requires an open-collector (open-drain) interface. It is not TTL compatible. The percent change can be reduced with a series resistor. For (See Datasheet)"

## PTH05010WAS
designator U?
15 A, 5 V Input Wide-Output Adjust Plug-in Power Module, -40 to 85 degC, 10-pin Module (EUJ10); Manufacturer: Texas Instruments; PartNumber: PTH05010WAS; Eco-Plan: TBD; Iout(Max)(A): 15; Regulated Outputs(#): 1; SubFamily: Non-Isolated POL; Vin(Max)(V): 5.5; Vin(Min)(V): 4.5; VO Adjustable: TRUE; Vout(Max)(V): 3.6; Vout(Min)(V): 0.8; DatasheetVersion: SLTS204C; PackageVersion: 4204985-3/E; PackageReference: EUJ10; PackageDescription: 10-Pin Plastic Special Shape, Body 15.75 x 34.8 mm; Supplier 1: Digi-Key; Supplier Part Number 1: 296-20403-ND; Supplier 2: Newark; Supplier Part Number 2: 73H4316; Supplier 3: Mouser; Supplier Part Number 3: 595-PTH05010WAS; Mounting Technology: Surface Mount; ComponentLink1Description: Manufacturer URL; ComponentLink1URL: http://www.ti.com/; ComponentLink2Description: Datasheet; ComponentLink2URL: http://www.ti.com/general/docs/lit/getliterature.tsp?genericPartNumber=PTH05010W&fileType=pdf; ComponentLink3Description: Package Specification; ComponentLink3URL: http://www.ti.com/lit/ml/mpds136d/mpds136d.pdf; ComponentLink4Description: URL Link1; ComponentLink4URL: Samples URL:http://www.ti.com/product/pth05010w#samples
footprint TI-EUJ10_V (10-Leads Double Sided Module, Body 34.8x15.75mm)
pins: 1 GND (power) "This is the common ground connection for the Vin and Vout power connections. It is also the 0 VDC reference for the control inputs", 2 VIN (power) "The positive input voltage power node to the module, which is referenced to common GND.", 3 ~{INHIBIT} (in) "The Inhibit pin is an open-collector/drain negative logic input that is referenced to GND. Applying a lowlevel ground signal to this input disables the module’s output and turns off the output voltage. When the Inhibit (See Datasheet)", 4 VO ADJUST (in) "A 0.1 W 1 % resistor must be directly connected between this pin and pin 7 (GND) to set the output voltage to a value higher than 0.8 V. The temperature stability of the resistor should be 100 ppm/degreesC (or better). The (See Datasheet)", 5 VO SENSE (in) "The sense input allows the regulation circuit to compensate for voltage drop between the module and the load. For optimal voltage accuracy Vo Sense should be connected to Vout. It can also be left disconnected.", 6 VOUT (power) "The regulated positive power output with respect to the GND node.", 7 GND (power) "This is the common ground connection for the Vin and Vout power connections. It is also the 0 VDC reference for the control inputs.", 8 TRACK (in) "This is an analog control input that enables the output voltage to follow an external voltage. This pin becomes active typically 20 ms after the input voltage has been applied, and allows direct control of the output voltage (See Datasheet)", 9 ~{MARGIN DOWN} (in) "When this input is asserted to GND, the output voltage is decreased by 5% from the nominal. The input requires an open-collector (open-drain) interface. It is not TTL compatible. A lower percent change can be accomodated (See Datasheet)", 10 ~{MARGIN UP} (in) "When this input is asserted to GND, the output voltage is increased by 5%. The input requires an open-collector (open-drain) interface. It is not TTL compatible. The percent change can be reduced with a series resistor. For (See Datasheet)"

## PTH05010WAST
designator U?
15 A, 5 V Input Wide-Output Adjust Plug-in Power Module, -40 to 85 degC, 10-pin Module (EUJ10); Manufacturer: Texas Instruments; PartNumber: PTH05010WAST; Eco-Plan: TBD; Iout(Max)(A): 15; Regulated Outputs(#): 1; SubFamily: Non-Isolated POL; Vin(Max)(V): 5.5; Vin(Min)(V): 4.5; VO Adjustable: TRUE; Vout(Max)(V): 3.6; Vout(Min)(V): 0.8; DatasheetVersion: SLTS204C; PackageVersion: 4204985-3/E; PackageReference: EUJ10; PackageDescription: 10-Pin Plastic Special Shape, Body 15.75 x 34.8 mm; Supplier 1: Digi-Key; Supplier Part Number 1: PTH05010WAST-ND; Supplier 2: Newark; Supplier Part Number 2: 01J0629; Supplier 3: Mouser; Supplier Part Number 3: 595-PTH05010WAST; Mounting Technology: Surface Mount; ComponentLink1Description: Manufacturer URL; ComponentLink1URL: http://www.ti.com/; ComponentLink2Description: Datasheet; ComponentLink2URL: http://www.ti.com/general/docs/lit/getliterature.tsp?genericPartNumber=PTH05010W&fileType=pdf; ComponentLink3Description: Package Specification; ComponentLink3URL: http://www.ti.com/lit/ml/mpds136d/mpds136d.pdf; ComponentLink4Description: URL Link1; ComponentLink4URL: Samples URL:http://www.ti.com/product/pth05010w#samples
footprint TI-EUJ10_V (10-Leads Double Sided Module, Body 34.8x15.75mm)
pins: 1 GND (power) "This is the common ground connection for the Vin and Vout power connections. It is also the 0 VDC reference for the control inputs", 2 VIN (power) "The positive input voltage power node to the module, which is referenced to common GND.", 3 ~{INHIBIT} (in) "The Inhibit pin is an open-collector/drain negative logic input that is referenced to GND. Applying a lowlevel ground signal to this input disables the module’s output and turns off the output voltage. When the Inhibit (See Datasheet)", 4 VO ADJUST (in) "A 0.1 W 1 % resistor must be directly connected between this pin and pin 7 (GND) to set the output voltage to a value higher than 0.8 V. The temperature stability of the resistor should be 100 ppm/degreesC (or better). The (See Datasheet)", 5 VO SENSE (in) "The sense input allows the regulation circuit to compensate for voltage drop between the module and the load. For optimal voltage accuracy Vo Sense should be connected to Vout. It can also be left disconnected.", 6 VOUT (power) "The regulated positive power output with respect to the GND node.", 7 GND (power) "This is the common ground connection for the Vin and Vout power connections. It is also the 0 VDC reference for the control inputs.", 8 TRACK (in) "This is an analog control input that enables the output voltage to follow an external voltage. This pin becomes active typically 20 ms after the input voltage has been applied, and allows direct control of the output voltage (See Datasheet)", 9 ~{MARGIN DOWN} (in) "When this input is asserted to GND, the output voltage is decreased by 5% from the nominal. The input requires an open-collector (open-drain) interface. It is not TTL compatible. A lower percent change can be accomodated (See Datasheet)", 10 ~{MARGIN UP} (in) "When this input is asserted to GND, the output voltage is increased by 5%. The input requires an open-collector (open-drain) interface. It is not TTL compatible. The percent change can be reduced with a series resistor. For (See Datasheet)"